# Altium schematic symbol library SCH - MCU - NUVOTON - NUVOTON NANO120VD3AN.SchLib: 1 symbol
Pins are listed as number, name and electrical type; pins without a type are passive.

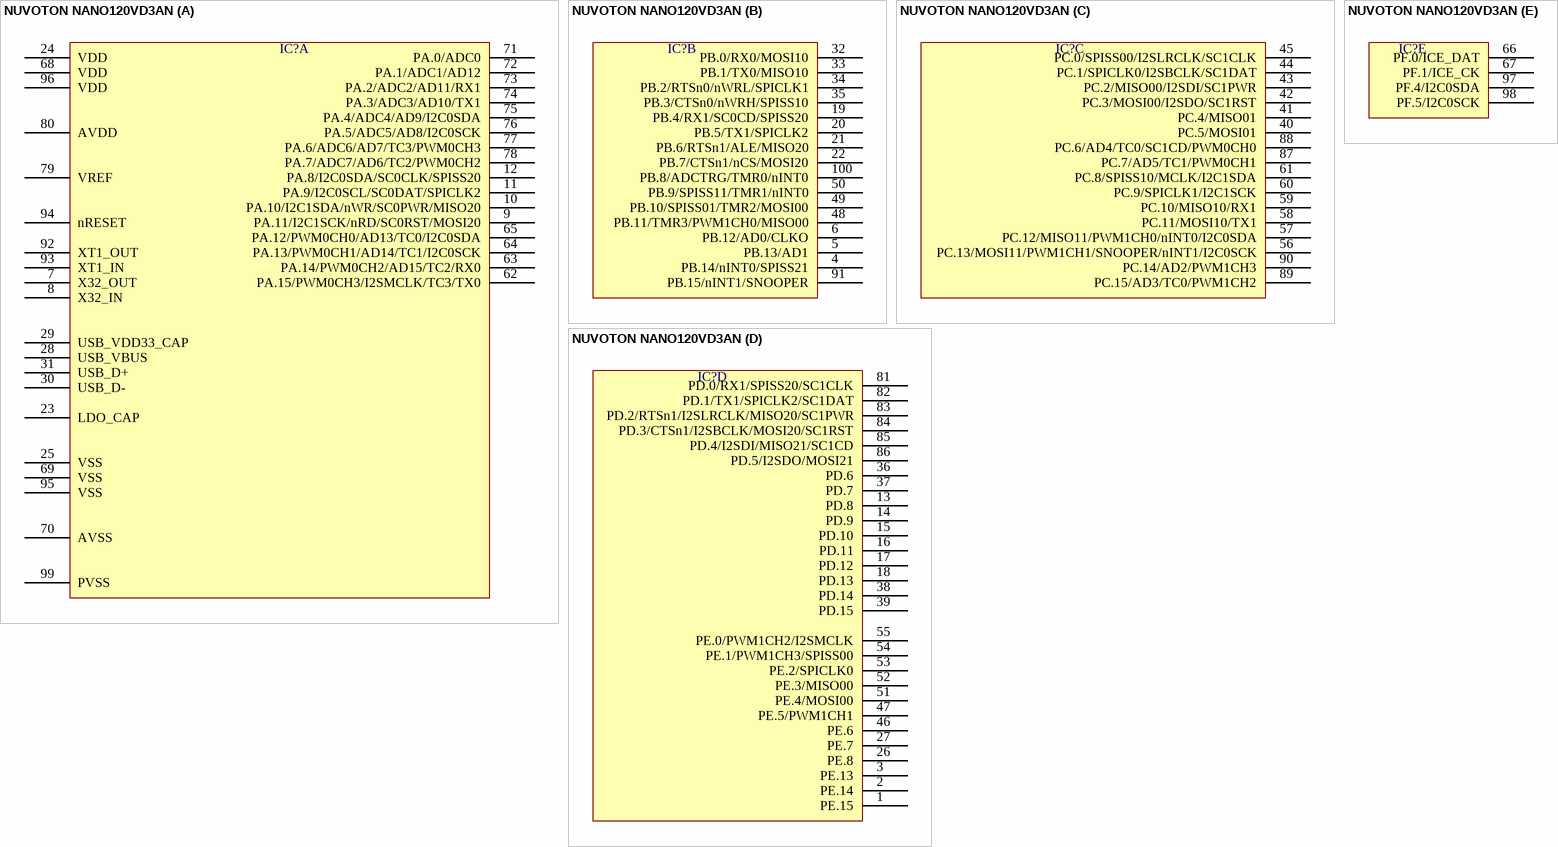
[diagram p0: symbol NUVOTON NANO120VD3AN]

## NUVOTON NANO120VD3AN
designator IC?  (value not drawn)
part A pins: 7 X32_OUT, 8 X32_IN, 9 PA.11/I2C1SCK/nRD/SC0RST/MOSI20, 10 PA.10/I2C1SDA/nWR/SC0PWR/MISO20, 11 PA.9/I2C0SCL/SC0DAT/SPICLK2, 12 PA.8/I2C0SDA/SC0CLK/SPISS20, 23 LDO_CAP, 24 VDD, 25 VSS, 28 USB_VBUS, 29 USB_VDD33_CAP, 30 USB_D-, 31 USB_D+, 62 PA.15/PWM0CH3/I2SMCLK/TC3/TX0, 63 PA.14/PWM0CH2/AD15/TC2/RX0, 64 PA.13/PWM0CH1/AD14/TC1/I2C0SCK, 65 PA.12/PWM0CH0/AD13/TC0/I2C0SDA, 68 VDD, 69 VSS, 70 AVSS, 71 PA.0/ADC0, 72 PA.1/ADC1/AD12, 73 PA.2/ADC2/AD11/RX1, 74 PA.3/ADC3/AD10/TX1, 75 PA.4/ADC4/AD9/I2C0SDA, 76 PA.5/ADC5/AD8/I2C0SCK, 77 PA.6/ADC6/AD7/TC3/PWM0CH3, 78 PA.7/ADC7/AD6/TC2/PWM0CH2, 79 VREF, 80 AVDD, 92 XT1_OUT, 93 XT1_IN, 94 nRESET, 95 VSS, 96 VDD, 99 PVSS
part B pins: 4 PB.14/nINT0/SPISS21, 5 PB.13/AD1, 6 PB.12/AD0/CLKO, 19 PB.4/RX1/SC0CD/SPISS20, 20 PB.5/TX1/SPICLK2, 21 PB.6/RTSn1/ALE/MISO20, 22 PB.7/CTSn1/nCS/MOSI20, 32 PB.0/RX0/MOSI10, 33 PB.1/TX0/MISO10, 34 PB.2/RTSn0/nWRL/SPICLK1, 35 PB.3/CTSn0/nWRH/SPISS10, 48 PB.11/TMR3/PWM1CH0/MISO00, 49 PB.10/SPISS01/TMR2/MOSI00, 50 PB.9/SPISS11/TMR1/nINT0, 91 PB.15/nINT1/SNOOPER, 100 PB.8/ADCTRG/TMR0/nINT0
part C pins: 40 PC.5/MOSI01, 41 PC.4/MISO01, 42 PC.3/MOSI00/I2SDO/SC1RST, 43 PC.2/MISO00/I2SDI/SC1PWR, 44 PC.1/SPICLK0/I2SBCLK/SC1DAT, 45 PC.0/SPISS00/I2SLRCLK/SC1CLK, 56 PC.13/MOSI11/PWM1CH1/SNOOPER/nINT1/I2C0SCK, 57 PC.12/MISO11/PWM1CH0/nINT0/I2C0SDA, 58 PC.11/MOSI10/TX1, 59 PC.10/MISO10/RX1, 60 PC.9/SPICLK1/I2C1SCK, 61 PC.8/SPISS10/MCLK/I2C1SDA, 87 PC.7/AD5/TC1/PWM0CH1, 88 PC.6/AD4/TC0/SC1CD/PWM0CH0, 89 PC.15/AD3/TC0/PWM1CH2, 90 PC.14/AD2/PWM1CH3
part D pins: 1 PE.15, 2 PE.14, 3 PE.13, 13 PD.8, 14 PD.9, 15 PD.10, 16 PD.11, 17 PD.12, 18 PD.13, 26 PE.8, 27 PE.7, 36 PD.6, 37 PD.7, 38 PD.14, 39 PD.15, 46 PE.6, 47 PE.5/PWM1CH1, 51 PE.4/MOSI00, 52 PE.3/MISO00, 53 PE.2/SPICLK0, 54 PE.1/PWM1CH3/SPISS00, 55 PE.0/PWM1CH2/I2SMCLK, 81 PD.0/RX1/SPISS20/SC1CLK, 82 PD.1/TX1/SPICLK2/SC1DAT, 83 PD.2/RTSn1/I2SLRCLK/MISO20/SC1PWR, 84 PD.3/CTSn1/I2SBCLK/MOSI20/SC1RST, 85 PD.4/I2SDI/MISO21/SC1CD, 86 PD.5/I2SDO/MOSI21
part E pins: 66 PF.0/ICE_DAT, 67 PF.1/ICE_CK, 97 PF.4/I2C0SDA, 98 PF.5/I2C0SCK